# Altium footprint library GPS_Traking_V1_1.PcbLib: 54 footprints (part 2 of 4)
Each footprint in its own frame and in the unit in brackets; x right, y up, seen from the top. Pads: shape width x height; smd on the part's side, far side on the other; paste and mask are expansions set on the pad; w line width, h text height; cw(c..) or ccw(c..) is an arc to the next point about the centre after c.
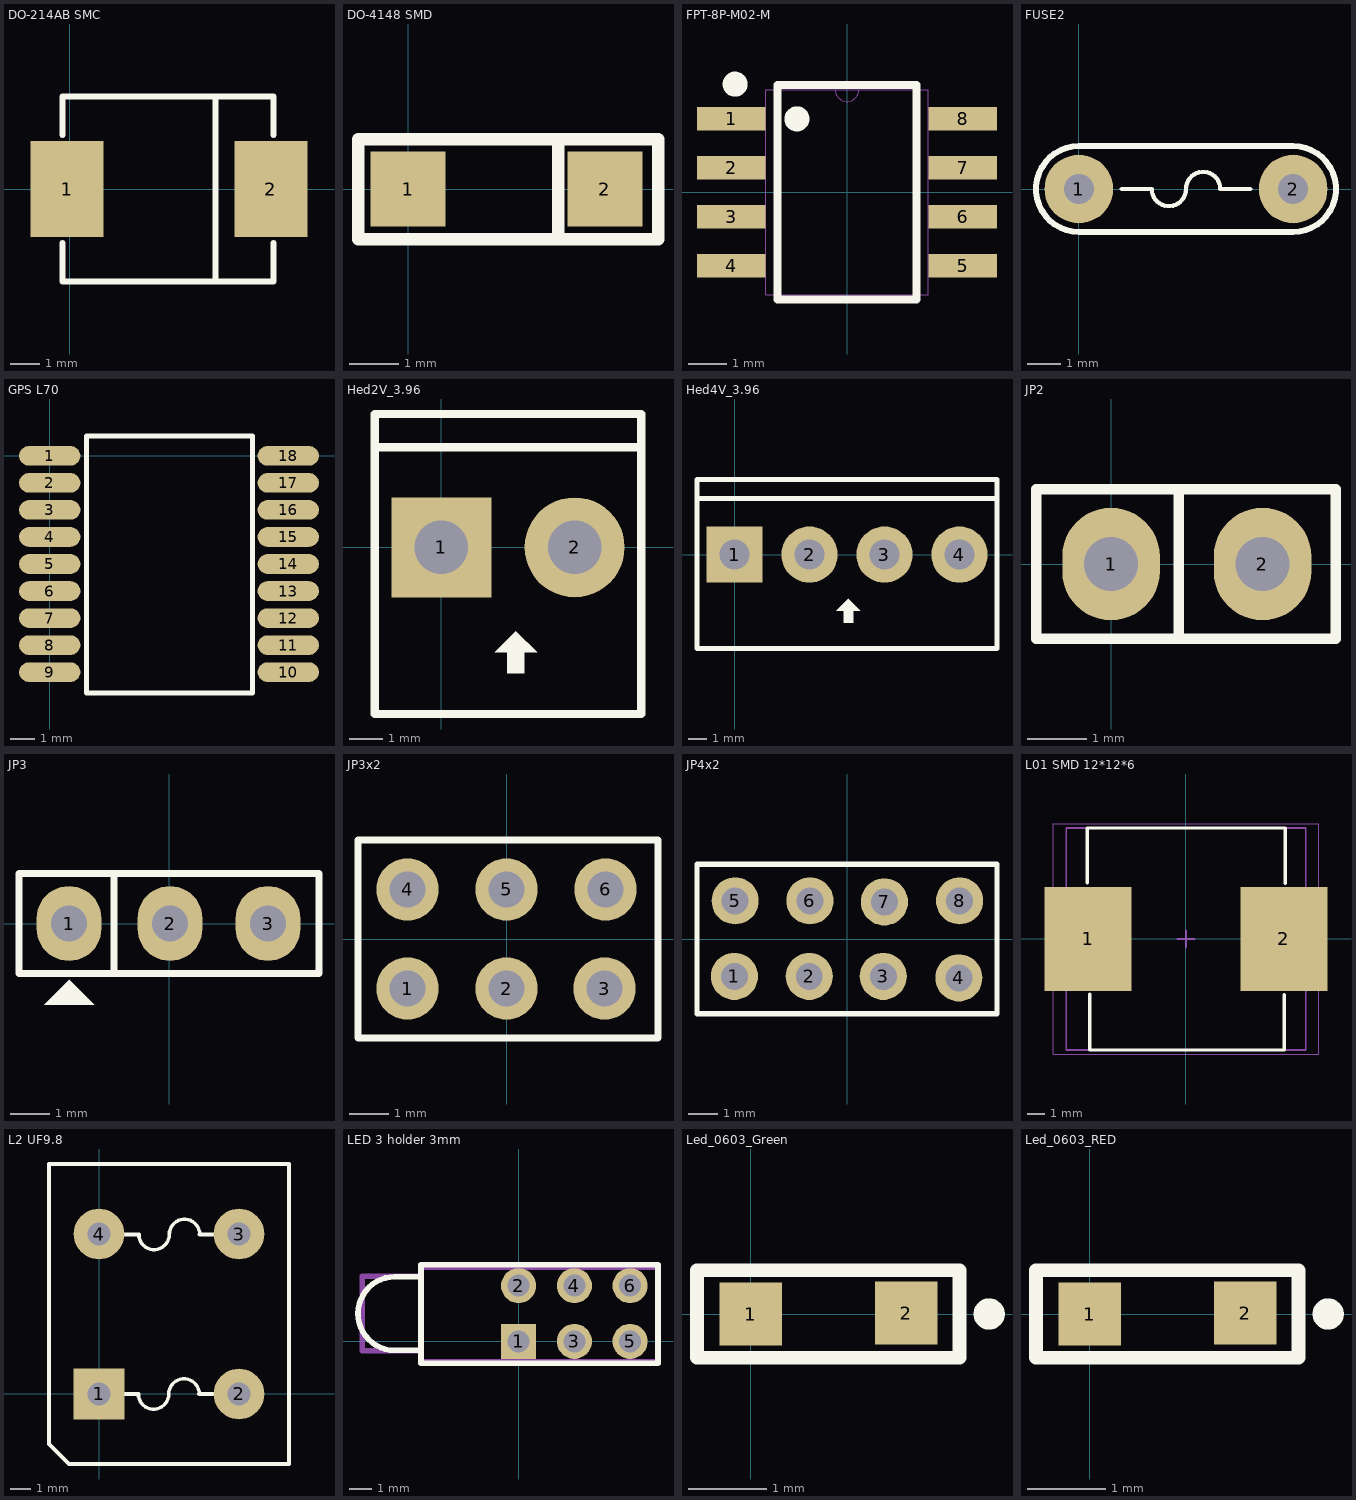
[diagram p1: the footprints below, top view; thin cyan lines are the x and y axes]

## DO-214AB SMC [mm]
pads (2):
  rect 2.5x3.3 smd: 1(-0.092,0) 2(6.9,0)
Top Overlay:
  lines w0.2: -0.254,-1.854 -0.254,-3.175 6.985,-3.175 6.985,-1.854 ; -0.254,1.854 -0.254,3.175 6.985,3.175 6.985,1.854 ; 5,-3.175 5,3.175
3D body: height 2.67, standoff 0.03, extent -0.7,-3.2 7.428,3.099

## DO-4148 SMD [mil]
pads (2):
  rect 60x60 smd: 1(0,0) 2(157.48,0)
Top Overlay:
  lines w10: 120,-40 120,40 ; -40,-40 200,-40 200,40 -40,40 -40,-40
3D body: height 56.1, standoff -0.98, extent 9.1,-27.55 146.89,29.54

## FPT-8P-M02-M [mil]
pads (8):
  rect 70x24 smd: 1(-118.11,75) 2(-118.11,25) 3(-118.11,-25) 4(-118.11,-75) 5(118.11,-75) 6(118.11,-25) 7(118.11,25) 8(118.11,75)
Top Overlay:
  circle w15.75: c-114.17,110.24 r4.92
  circle w15.75: c-51.18,74.8 r4.92
  lines w6: -70.87,100.1 -70.87,109.5
  lines w7.87: -70.87,-109.5 70.87,-109.5 70.87,109.5 -70.87,109.5 -70.87,-109.5
Mechanical 1:
  lines w1: -12,104.5 ccw(c0,104.5) 12,104.5 ; -126,-85 -126,-65 -83,-65 -83,-85 -126,-85 ; -126,-35 -126,-15 -83,-15 -83,-35 -126,-35 ; -126,15 -126,35 -83,35 -83,15 -126,15 ; -126,65 -126,85 -83,85 -83,65 -126,65 ; -83,-104.5 83,-104.5 83,104.5 -83,104.5 -83,-104.5 ; 83,-85 83,-65 126,-65 126,-85 83,-85 ; 83,-35 83,-15 126,-15 126,-35 83,-35 ; 83,15 83,35 126,35 126,15 83,15 ; 83,65 83,85 126,85 126,65 83,65
  text "*" at -122,90 h31.25
3D body: height 69.09, standoff 0, extent -125.98,-104.49 125.99,104.49

## FUSE2 [mil]
pads (2):
  round 80 hole 35: 1(0,0) 2(250,0)
Top Overlay:
  lines w5: 50,0 85,0 ccw(c105,0) 125,0 cw(c145,0) 165,0 200,0
  lines w7: 0,-50 cw(c0,0) 0,50 250,50 cw(c250,0) 250,-50 0,-50

## GPS L70 [mm]
pads (18):
  oval 2.5x0.8 smd: 1(0,0) 2(0,-1.1) 3(0,-2.2) 4(0,-3.3) 5(0,-4.4) 6(0,-5.5) 7(0,-6.6) 8(0,-7.7) 9(0,-8.8) 10(9.7,-8.8) 11(9.7,-7.7) 12(9.7,-6.6) 13(9.7,-5.5) 14(9.7,-4.4) 15(9.7,-3.3) 16(9.7,-2.2) 17(9.7,-1.1) 18(9.7,0)
Top Overlay:
  lines w0.2: 1.5,-9.65 8.25,-9.65 8.25,0.8 1.5,0.8 1.5,-9.65
3D body: height 2.52, standoff 0, extent 0,-9.45 9.7,0.65

## Hed2V_3.96 [mm]
pads (2):
  rect 3x3 hole 1.6 mask+0.102: 1(0,0)
  round 3 hole 1.6 mask+0.102: 2(4,0)
Top Overlay:
  region: 2.235,-2.515 1.6,-3.15 1.981,-3.15 1.981,-3.785 2.489,-3.785 2.489,-3.15 2.87,-3.15
  lines w0.254: -2,3 6,3 ; -2,-5 6,-5 6,4 -2,4 -2,-5
3D body: height 13.9, standoff -3.6, extent -2.002,-4.673 5.918,4.928

## Hed4V_3.96 [mm]
pads (4):
  rect 3x3 hole 1.6 mask+0.102: 1(0,0)
  round 3 hole 1.6 mask+0.102: 2(4,0) 3(8,0) 4(12,0)
Top Overlay:
  region: 6.071,-2.362 5.436,-2.997 5.817,-2.997 5.817,-3.632 6.325,-3.632 6.325,-2.997 6.706,-2.997
  lines w0.254: -2,3 14,3 ; -2,-5 -2,4 14,4 14,-5 -2,-5
3D body: height 13.9, standoff -3.6, extent -1.926,-4.674 13.914,4.927

## JP2 [mil]
pads (2):
  oval 65x75 hole 36: 1(0,0) 2(101,0)
Top Overlay:
  lines w7: 45,-50 45,49 ; -50,-50 150,-50 150,50 -50,50 -50,-50
3D body: height 323.44, standoff -117.51, extent -48.03,-50 148.03,48.43

## JP3 [mil]
pads (3):
  oval 65x75 hole 36: 1(-100,0) 2(1,0) 3(99,0)
Top Overlay:
  region: -100,-56 -125,-81 -75,-81
  lines w7: -55,-50 -55,49 ; -150,-50 150,-50 150,50 -150,50 -150,-50
3D body: height 355.04, standoff -124.88, extent -150,-59.96 150,55

## JP3x2 [mm]
pads (6):
  round 1.6 hole 0.914: 1(-2.54,-1.27) 2(0,-1.27) 3(2.515,-1.27) 4(-2.54,1.27) 5(0,1.27) 6(2.54,1.27)
Top Overlay:
  lines w0.178: -3.81,-2.54 3.886,-2.54 3.886,2.54 -3.81,2.54 -3.81,0 -3.81,-2.54
3D body: height 8.52, standoff -2.98, extent -3.81,-2.54 3.81,2.54

## JP4x2 [mil]
pads (8):
  round 62.99 hole 36: 1(-150.5,-49.5) 2(-50.5,-49.5) 3(48.5,-49.5) 4(149.5,-51.5) 5(-149.5,51.5) 6(-49.5,51.5) 7(50,50) 8(150.5,51.5)
Top Overlay:
  lines w7: -200.5,-99.5 200.5,-99.5 200.5,100.5 -200.5,100.5 -200.5,0.5 -200.5,-99.5
3D body: height 335.25, standoff -117.51, extent -196.99,-99.99 203.01,100.01

## L01 SMD 12*12*6 [mm]
pads (2):
  rect 5x6 smd: 1(-5.65,0) 2(5.65,0)
Top Overlay:
  lines w0.2: -5.69,3.251 -5.69,6.401 5.715,6.401 5.715,3.2 ; -5.563,-3.175 -5.563,-6.401 5.639,-6.401 5.664,-6.375 5.664,-3.2
Mechanical 13:
  lines w0.1: -6.9,-6.4 -6.9,6.4 6.9,6.4 6.9,-6.4 -6.9,-6.4
Mechanical 15:
  lines w0.05: -7.65,-6.65 -7.65,6.65 7.65,6.65 7.65,-6.65 -7.65,-6.65
  lines w0.1: -0.5,0 0.5,0 ; 0,-0.5 0,0.5
3D body: height 7.5, standoff 0, extent -4.4,-6.4 4.4,6.4
3D body: height 7.5, standoff 0, extent -6.9,-6.4 -4.4,6.4
3D body: height 7.5, standoff 0, extent 4.4,-6.4 6.9,6.4

## L2 UF9.8 [mm]
pads (4):
  rect 2.54x2.54 hole 1.143: 1(0,0)
  round 2.54 hole 1.143: 2(7,0) 3(7,8) 4(0,8)
Top Overlay:
  lines w0.178: 1.964,0 ccw(c2.726,0) 3.488,0 cw(c4.25,0) 5.012,0 ; 1.99,7.976 ccw(c2.752,7.976) 3.514,7.976 cw(c4.276,7.976) 5.038,7.976
  lines w0.203: 1.202,0 1.964,0 ; 1.228,7.976 1.99,7.976 ; 5.012,0 5.774,0 ; 5.038,7.976 5.8,7.976 ; -2.5,-2.5 -2.5,11.5 9.5,11.5 9.5,-3.5 -1.5,-3.5 -2.5,-2.5

## LED 3 holder 3mm [mm]
pads (6):
  rect 1.6x1.6 hole 1: 1(0,0)
  round 1.6 hole 1: 2(0,2.54) 3(2.54,0) 4(2.54,2.54) 5(5.08,0) 6(5.08,2.54)
Top Overlay:
  lines w0.254: -4.445,-0.406 -5.639,-0.406 cw(c-5.639,1.27) -5.639,2.946 -4.445,2.946 ; -4.445,-1 -4.445,3.5 6.35,3.5 6.35,-1 -4.445,-1
Mechanical 16:
  lines w0.254: -4.43,-0.43 -7.13,-0.43 -7.13,2.97 -4.43,2.97 ; -4.43,-0.93 -4.43,3.37 6.35,3.37 6.35,-0.93 -4.43,-0.93
3D body: height 9.65, standoff -3.68, extent -7.28,-0.898 3.718,3.42

## Led_0603_Green [mm]
pads (2):
  rect 0.8x0.8 smd: 1(0,0) 2(1.991,0.013)
Top Overlay:
  circle w0.2: c3.048,0 r0.1
  lines w0.178: -0.686,-0.559 -0.686,0.559 2.667,0.559 2.667,-0.559 -0.686,-0.559
3D body: height 1.1, standoff 0, extent 0.206,-0.4 1.826,0.4

## Led_0603_RED [mm]
pads (2):
  rect 0.8x0.8 smd: 1(0,0) 2(1.991,0.013)
Top Overlay:
  circle w0.2: c3.048,0 r0.1
  lines w0.178: -0.686,-0.559 2.667,-0.559 2.667,0.559 -0.686,0.559 -0.686,-0.559
3D body: height 1.1, standoff 0, extent 0.206,-0.4 1.826,0.4